# EAGLE library part PCA9571 (library Micromouse 2020)
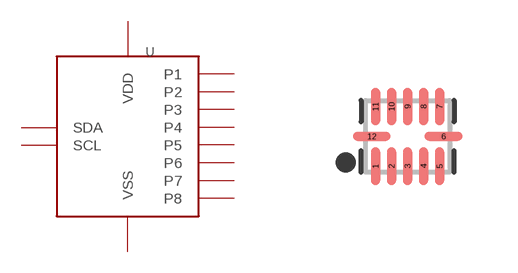
[diagram p11: symbol with the pads of PCA9571; footprint PCA9571]

Designator prefix U

## PCA9571  [PCA9571]
1  P1
2  P2
3  P3
4  P4
5  VSS  pas
6  P5
7  P6
8  P7
9  P8
10  SCL  in
11  SDA
12  VDD  pwr

## Footprint PCA9571 (pad centres in mm)
12-QFN, 0.40 mm pitch, 1.70 X 2.00 X 0.50 mm body 12-pin QFN package with 0.40 mm pitch with body size 1.70 X 2.00 X 0.50 mm
smd 0.22 x 0.938: 1 -0.8,-0.746; 2 -0.4,-0.746; 3 0,-0.746; 4 0.4,-0.746; 5 0.8,-0.746; 7 0.8,0.746; 8 0.4,0.746; 9 0,0.746; 10 -0.4,0.746; 11 -0.8,0.746
smd 0.938 x 0.22: 6 0.896,0; 12 -0.896,0